# Altium schematic symbol library Batteryheader.SchLib: 1 symbol
Pins are listed as number, name and electrical type; pins without a type are passive.

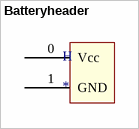
[diagram p0: symbol Batteryheader]

## Batteryheader
designator H
footprint Batteryheader
pins: 0 Vcc (power), 1 GND (power)